# EAGLE library part XULA-DBLCONN (library xess)
XuLA2.5 Board Connector
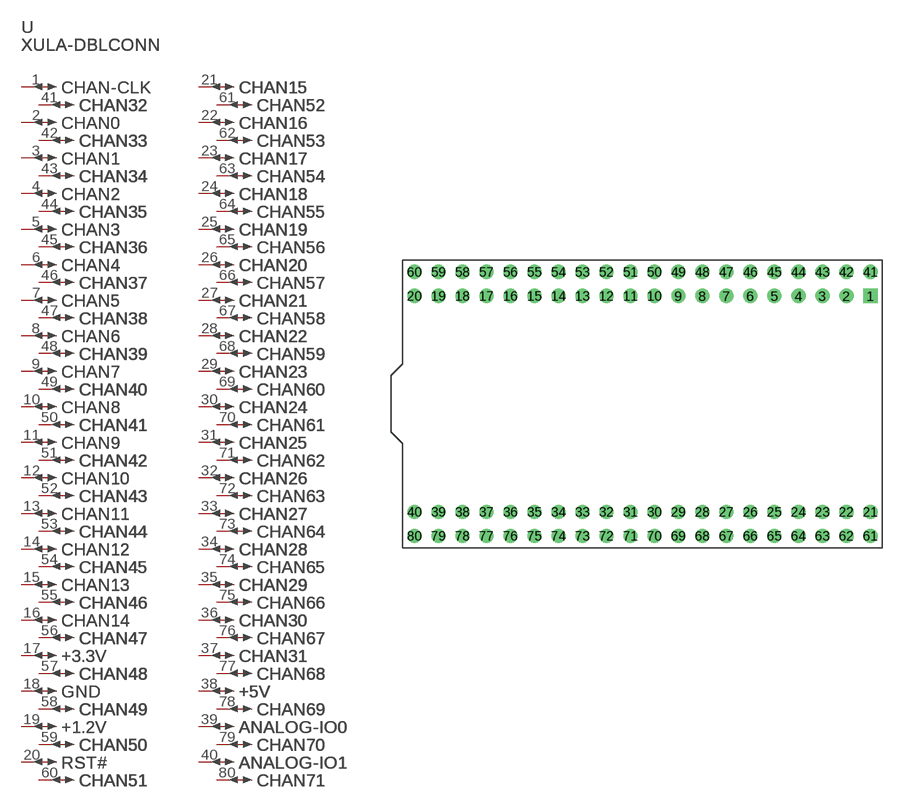
[diagram p163: symbol with the pads of XULA-DIP80; footprint XULA-DIP80]

Designator prefix U; gates CHAN-CLK=PIN_GATE_IO CHAN0=PIN_GATE_IO CHAN1=PIN_GATE_IO CHAN3=PIN_GATE_IO CHAN4=PIN_GATE_IO CHAN5=PIN_GATE_IO CHAN6=PIN_GATE_IO CHAN7=PIN_GATE_IO CHAN8=PIN_GATE_IO CHAN10=PIN_GATE_IO CHAN11=PIN_GATE_IO CHAN13=PIN_GATE_IO CHAN14=PIN_GATE_IO +3.3V=PIN_GATE_IO GND=PIN_GATE_IO +1.2V=PIN_GATE_IO RST#=PIN_GATE_IO CHAN15=PIN_GATE_IO CHAN16=PIN_GATE_IO CHAN17=PIN_GATE_IO CHAN18=PIN_GATE_IO CHAN20=PIN_GATE_IO CHAN21=PIN_GATE_IO CHAN22=PIN_GATE_IO CHAN23=PIN_GATE_IO CHAN25=PIN_GATE_IO CHAN26=PIN_GATE_IO CHAN28=PIN_GATE_IO CHAN29=PIN_GATE_IO CHAN30=PIN_GATE_IO CHAN31=PIN_GATE_IO +5V=PIN_GATE_IO ANALOG-IO0=PIN_GATE_IO ANALOG-IO1=PIN_GATE_IO G$1=PV_GATE CHAN2=PIN_GATE_IO CHAN9=PIN_GATE_IO CHAN12=PIN_GATE_IO CHAN19=PIN_GATE_IO CHAN24=PIN_GATE_IO CHAN27=PIN_GATE_IO CHAN32=PIN_GATE_IO CHAN33=PIN_GATE_IO CHAN34=PIN_GATE_IO CHAN35=PIN_GATE_IO CHAN36=PIN_GATE_IO CHAN37=PIN_GATE_IO CHAN38=PIN_GATE_IO CHAN39=PIN_GATE_IO CHAN40=PIN_GATE_IO CHAN41=PIN_GATE_IO CHAN42=PIN_GATE_IO CHAN43=PIN_GATE_IO CHAN44=PIN_GATE_IO CHAN45=PIN_GATE_IO CHAN46=PIN_GATE_IO CHAN47=PIN_GATE_IO CHAN48=PIN_GATE_IO CHAN49=PIN_GATE_IO CHAN50=PIN_GATE_IO CHAN51=PIN_GATE_IO CHAN52=PIN_GATE_IO CHAN53=PIN_GATE_IO CHAN54=PIN_GATE_IO CHAN55=PIN_GATE_IO CHAN56=PIN_GATE_IO CHAN57=PIN_GATE_IO CHAN58=PIN_GATE_IO CHAN59=PIN_GATE_IO CHAN60=PIN_GATE_IO CHAN61=PIN_GATE_IO CHAN62=PIN_GATE_IO CHAN63=PIN_GATE_IO CHAN64=PIN_GATE_IO CHAN65=PIN_GATE_IO CHAN66=PIN_GATE_IO CHAN67=PIN_GATE_IO CHAN68=PIN_GATE_IO CHAN69=PIN_GATE_IO CHAN70=PIN_GATE_IO CHAN71=PIN_GATE_IO

## XULA-DBLCONN  [XULA-DIP80]
1  CHAN-CLK:1
2  CHAN0:1
3  CHAN1:1
4  CHAN2:1
5  CHAN3:1
6  CHAN4:1
7  CHAN5:1
8  CHAN6:1
9  CHAN7:1
10  CHAN8:1
11  CHAN9:1
12  CHAN10:1
13  CHAN11:1
14  CHAN12:1
15  CHAN13:1
16  CHAN14:1
17  +3.3V:1
18  GND:1
19  +1.2V:1
20  RST#:1
21  CHAN15:1
22  CHAN16:1
23  CHAN17:1
24  CHAN18:1
25  CHAN19:1
26  CHAN20:1
27  CHAN21:1
28  CHAN22:1
29  CHAN23:1
30  CHAN24:1
31  CHAN25:1
32  CHAN26:1
33  CHAN27:1
34  CHAN28:1
35  CHAN29:1
36  CHAN30:1
37  CHAN31:1
38  +5V:1
39  ANALOG-IO0:1
40  ANALOG-IO1:1
41  CHAN32:1
42  CHAN33:1
43  CHAN34:1
44  CHAN35:1
45  CHAN36:1
46  CHAN37:1
47  CHAN38:1
48  CHAN39:1
49  CHAN40:1
50  CHAN41:1
51  CHAN42:1
52  CHAN43:1
53  CHAN44:1
54  CHAN45:1
55  CHAN46:1
56  CHAN47:1
57  CHAN48:1
58  CHAN49:1
59  CHAN50:1
60  CHAN51:1
61  CHAN52:1
62  CHAN53:1
63  CHAN54:1
64  CHAN55:1
65  CHAN56:1
66  CHAN57:1
67  CHAN58:1
68  CHAN59:1
69  CHAN60:1
70  CHAN61:1
71  CHAN62:1
72  CHAN63:1
73  CHAN64:1
74  CHAN65:1
75  CHAN66:1
76  CHAN67:1
77  CHAN68:1
78  CHAN69:1
79  CHAN70:1
80  CHAN71:1

## Footprint XULA-DIP80 (pad centres in mm)
drill 1.016 square: 1 49.53,24.13
drill 1.016 round: 2 46.99,24.13; 3 44.45,24.13; 4 41.91,24.13; 5 39.37,24.13; 6 36.83,24.13; 7 34.29,24.13; 8 31.75,24.13; 9 29.21,24.13; 10 26.67,24.13; 11 24.13,24.13; 12 21.59,24.13; 13 19.05,24.13; 14 16.51,24.13; 15 13.97,24.13; 16 11.43,24.13; 17 8.89,24.13; 18 6.35,24.13; 19 3.81,24.13; 20 1.27,24.13; 21 49.53,1.27; 22 46.99,1.27; 23 44.45,1.27; 24 41.91,1.27; 25 39.37,1.27; 26 36.83,1.27; 27 34.29,1.27; 28 31.75,1.27; 29 29.21,1.27; 30 26.67,1.27; 31 24.13,1.27; 32 21.59,1.27; 33 19.05,1.27; 34 16.51,1.27; 35 13.97,1.27; 36 11.43,1.27; 37 8.89,1.27; 38 6.35,1.27; 39 3.81,1.27; 40 1.27,1.27; 41 49.53,26.67; 42 46.99,26.67; 43 44.45,26.67; 44 41.91,26.67; 45 39.37,26.67; 46 36.83,26.67; 47 34.29,26.67; 48 31.75,26.67; 49 29.21,26.67; 50 26.67,26.67; 51 24.13,26.67; 52 21.59,26.67; 53 19.05,26.67; 54 16.51,26.67; 55 13.97,26.67; 56 11.43,26.67; 57 8.89,26.67; 58 6.35,26.67; 59 3.81,26.67; 60 1.27,26.67; 61 49.53,-1.27; 62 46.99,-1.27; 63 44.45,-1.27; 64 41.91,-1.27; 65 39.37,-1.27; 66 36.83,-1.27; 67 34.29,-1.27; 68 31.75,-1.27; 69 29.21,-1.27; 70 26.67,-1.27; 71 24.13,-1.27; 72 21.59,-1.27; 73 19.05,-1.27; 74 16.51,-1.27; 75 13.97,-1.27; 76 11.43,-1.27; 77 8.89,-1.27; 78 6.35,-1.27; 79 3.81,-1.27; 80 1.27,-1.27